# Altium integrated library Altium_WCAP-CSRF (rev20a).IntLib: 25 symbols
Pins are listed as number, name and electrical type; pins without a type are passive.

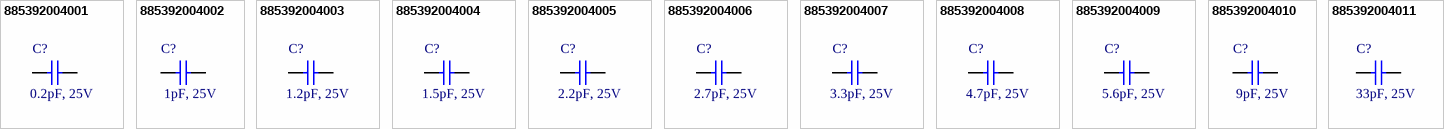
[diagram p0: symbols 885392004001 to 885392004011]

## 885392004001
designator C?, comment 0.2pF, 25V
WCAP-CSRF Multilayer Ceramic Chip High Frequency Capacitor, size 0201, NP0 Class I, 0.2pF, 25V; Manufacturer: Wurth Elektronik; Manufacturer Part Number: 885392004001; Q-Factor min.: 404; Rated Voltage: 25VDC; Insulation Resistance: 10GOhm; Capacitance Tolerance: +/-0.05pF; Technical Reference: NP00201R20A025DFCT1R000; ComponentLink1Description: Manufacturer; ComponentLink1URL: http://www.we-online.de; ComponentLink2Description: Datasheet; ComponentLink2URL: https://www.we-online.com/catalog/datasheet/885392004001.pdf; Mounting Technology: SMT; Operating Temperature: -55 to +125degC; Packaging: Tape and Reel; Published Date: May 2020; Ceramic Type: NP0 Class I; Height: 0.3mm; Capacitance: 0.2pF; Size: 0201
footprint WCAP-CSRF_0201
pins: 1, 2

## 885392004002
designator C?, comment 1pF, 25V
WCAP-CSRF Multilayer Ceramic Chip High Frequency Capacitor, size 0201, NP0 Class I, 1pF, 25V; Manufacturer: Wurth Elektronik; Manufacturer Part Number: 885392004002; Q-Factor min.: 420; Rated Voltage: 25VDC; Insulation Resistance: 10GOhm; Capacitance Tolerance: +/-0.1pF; Technical Reference: NP002011R0B025DFCT1R000; ComponentLink1Description: Manufacturer; ComponentLink1URL: http://www.we-online.de; ComponentLink2Description: Datasheet; ComponentLink2URL: https://www.we-online.com/catalog/datasheet/885392004002.pdf; Mounting Technology: SMT; Operating Temperature: -55 to +125degC; Packaging: Tape and Reel; Published Date: May 2020; Ceramic Type: NP0 Class I; Height: 0.3mm; Capacitance: 1pF; Size: 0201
footprint WCAP-CSRF_0201
pins: 1, 2

## 885392004003
designator C?, comment 1.2pF, 25V
WCAP-CSRF Multilayer Ceramic Chip High Frequency Capacitor, size 0201, NP0 Class I, 1.2pF, 25V; Manufacturer: Wurth Elektronik; Manufacturer Part Number: 885392004003; Q-Factor min.: 424; Rated Voltage: 25VDC; Insulation Resistance: 10GOhm; Capacitance Tolerance: +/-0.1pF; Technical Reference: NP002011R2B025DFCT1R000; ComponentLink1Description: Manufacturer; ComponentLink1URL: http://www.we-online.de; ComponentLink2Description: Datasheet; ComponentLink2URL: https://www.we-online.com/catalog/datasheet/885392004003.pdf; Mounting Technology: SMT; Operating Temperature: -55 to +125degC; Packaging: Tape and Reel; Published Date: May 2020; Ceramic Type: NP0 Class I; Height: 0.3mm; Capacitance: 1.2pF; Size: 0201
footprint WCAP-CSRF_0201
pins: 1, 2

## 885392004004
designator C?, comment 1.5pF, 25V
WCAP-CSRF Multilayer Ceramic Chip High Frequency Capacitor, size 0201, NP0 Class I, 1.5pF, 25V; Manufacturer: Wurth Elektronik; Manufacturer Part Number: 885392004004; Q-Factor min.: 430; Rated Voltage: 25VDC; Insulation Resistance: 10GOhm; Capacitance Tolerance: +/-0.1pF; Technical Reference: NP002011R5B025DFCT1R000; ComponentLink1Description: Manufacturer; ComponentLink1URL: http://www.we-online.de; ComponentLink2Description: Datasheet; ComponentLink2URL: https://www.we-online.com/catalog/datasheet/885392004004.pdf; Mounting Technology: SMT; Operating Temperature: -55 to +125degC; Packaging: Tape and Reel; Published Date: May 2020; Ceramic Type: NP0 Class I; Height: 0.3mm; Capacitance: 1.5pF; Size: 0201
footprint WCAP-CSRF_0201
pins: 1, 2

## 885392004005
designator C?, comment 2.2pF, 25V
WCAP-CSRF Multilayer Ceramic Chip High Frequency Capacitor, size 0201, NP0 Class I, 2.2pF, 25V; Manufacturer: Wurth Elektronik; Manufacturer Part Number: 885392004005; Q-Factor min.: 444; Rated Voltage: 25VDC; Insulation Resistance: 10GOhm; Capacitance Tolerance: +/-0.1pF; Technical Reference: NP002012R2B025DFCT1R000; ComponentLink1Description: Manufacturer; ComponentLink1URL: http://www.we-online.de; ComponentLink2Description: Datasheet; ComponentLink2URL: https://www.we-online.com/catalog/datasheet/885392004005.pdf; Mounting Technology: SMT; Operating Temperature: -55 to +125degC; Packaging: Tape and Reel; Published Date: May 2020; Ceramic Type: NP0 Class I; Height: 0.3mm; Capacitance: 2.2pF; Size: 0201
footprint WCAP-CSRF_0201
pins: 1, 2

## 885392004006
designator C?, comment 2.7pF, 25V
WCAP-CSRF Multilayer Ceramic Chip High Frequency Capacitor, size 0201, NP0 Class I, 2.7pF, 25V; Manufacturer: Wurth Elektronik; Manufacturer Part Number: 885392004006; Q-Factor min.: 454; Rated Voltage: 25VDC; Insulation Resistance: 10GOhm; Capacitance Tolerance: +/-0.1pF; Technical Reference: NP002012R7B025DFCT1R000; ComponentLink1Description: Manufacturer; ComponentLink1URL: http://www.we-online.de; ComponentLink2Description: Datasheet; ComponentLink2URL: https://www.we-online.com/catalog/datasheet/885392004006.pdf; Mounting Technology: SMT; Operating Temperature: -55 to +125degC; Packaging: Tape and Reel; Published Date: May 2020; Ceramic Type: NP0 Class I; Height: 0.3mm; Capacitance: 2.7pF; Size: 0201
footprint WCAP-CSRF_0201
pins: 1, 2

## 885392004007
designator C?, comment 3.3pF, 25V
WCAP-CSRF Multilayer Ceramic Chip High Frequency Capacitor, size 0201, NP0 Class I, 3.3pF, 25V; Manufacturer: Wurth Elektronik; Manufacturer Part Number: 885392004007; Q-Factor min.: 466; Rated Voltage: 25VDC; Insulation Resistance: 10GOhm; Capacitance Tolerance: +/-0.1pF; Technical Reference: NP002013R3B025DFCT1R000; ComponentLink1Description: Manufacturer; ComponentLink1URL: http://www.we-online.de; ComponentLink2Description: Datasheet; ComponentLink2URL: https://www.we-online.com/catalog/datasheet/885392004007.pdf; Mounting Technology: SMT; Operating Temperature: -55 to +125degC; Packaging: Tape and Reel; Published Date: May 2020; Ceramic Type: NP0 Class I; Height: 0.3mm; Capacitance: 3.3pF; Size: 0201
footprint WCAP-CSRF_0201
pins: 1, 2

## 885392004008
designator C?, comment 4.7pF, 25V
WCAP-CSRF Multilayer Ceramic Chip High Frequency Capacitor, size 0201, NP0 Class I, 4.7pF, 25V; Manufacturer: Wurth Elektronik; Manufacturer Part Number: 885392004008; Q-Factor min.: 494; Rated Voltage: 25VDC; Insulation Resistance: 10GOhm; Capacitance Tolerance: +/-0.25pF; Technical Reference: NP002014R7C025DFCT1R000; ComponentLink1Description: Manufacturer; ComponentLink1URL: http://www.we-online.de; ComponentLink2Description: Datasheet; ComponentLink2URL: https://www.we-online.com/catalog/datasheet/885392004008.pdf; Mounting Technology: SMT; Operating Temperature: -55 to +125degC; Packaging: Tape and Reel; Published Date: May 2020; Ceramic Type: NP0 Class I; Height: 0.3mm; Capacitance: 4.7pF; Size: 0201
footprint WCAP-CSRF_0201
pins: 1, 2

## 885392004009
designator C?, comment 5.6pF, 25V
WCAP-CSRF Multilayer Ceramic Chip High Frequency Capacitor, size 0201, NP0 Class I, 5.6pF, 25V; Manufacturer: Wurth Elektronik; Manufacturer Part Number: 885392004009; Q-Factor min.: 512; Rated Voltage: 25VDC; Insulation Resistance: 10GOhm; Capacitance Tolerance: +/-0.25pF; Technical Reference: NP002015R6C025DFCT1R000; ComponentLink1Description: Manufacturer; ComponentLink1URL: http://www.we-online.de; ComponentLink2Description: Datasheet; ComponentLink2URL: https://www.we-online.com/catalog/datasheet/885392004009.pdf; Mounting Technology: SMT; Operating Temperature: -55 to +125degC; Packaging: Tape and Reel; Published Date: May 2020; Ceramic Type: NP0 Class I; Height: 0.3mm; Capacitance: 5.6pF; Size: 0201
footprint WCAP-CSRF_0201
pins: 1, 2

## 885392004010
designator C?, comment 9pF, 25V
WCAP-CSRF Multilayer Ceramic Chip High Frequency Capacitor, size 0201, NP0 Class I, 9pF, 25V; Manufacturer: Wurth Elektronik; Manufacturer Part Number: 885392004010; Q-Factor min.: 580; Rated Voltage: 25VDC; Insulation Resistance: 10GOhm; Capacitance Tolerance: +/-0.5pF; Technical Reference: NP002019R0D025DFCT1R000; ComponentLink1Description: Manufacturer; ComponentLink1URL: http://www.we-online.de; ComponentLink2Description: Datasheet; ComponentLink2URL: https://www.we-online.com/catalog/datasheet/885392004010.pdf; Mounting Technology: SMT; Operating Temperature: -55 to +125degC; Packaging: Tape and Reel; Published Date: May 2020; Ceramic Type: NP0 Class I; Height: 0.3mm; Capacitance: 9pF; Size: 0201
footprint WCAP-CSRF_0201
pins: 1, 2

## 885392004011
designator C?, comment 33pF, 25V
WCAP-CSRF Multilayer Ceramic Chip High Frequency Capacitor, size 0201, NP0 Class I, 33pF, 25V; Manufacturer: Wurth Elektronik; Manufacturer Part Number: 885392004011; Q-Factor min.: 1000; Rated Voltage: 25VDC; Insulation Resistance: 10GOhm; Capacitance Tolerance: +/-5%; Technical Reference: NP00201330J025DFCT1R000; ComponentLink1Description: Manufacturer; ComponentLink1URL: http://www.we-online.de; ComponentLink2Description: Datasheet; ComponentLink2URL: https://www.we-online.com/catalog/datasheet/885392004011.pdf; Mounting Technology: SMT; Operating Temperature: -55 to +125degC; Packaging: Tape and Reel; Published Date: May 2020; Ceramic Type: NP0 Class I; Height: 0.3mm; Capacitance: 33pF; Size: 0201
footprint WCAP-CSRF_0201
pins: 1, 2


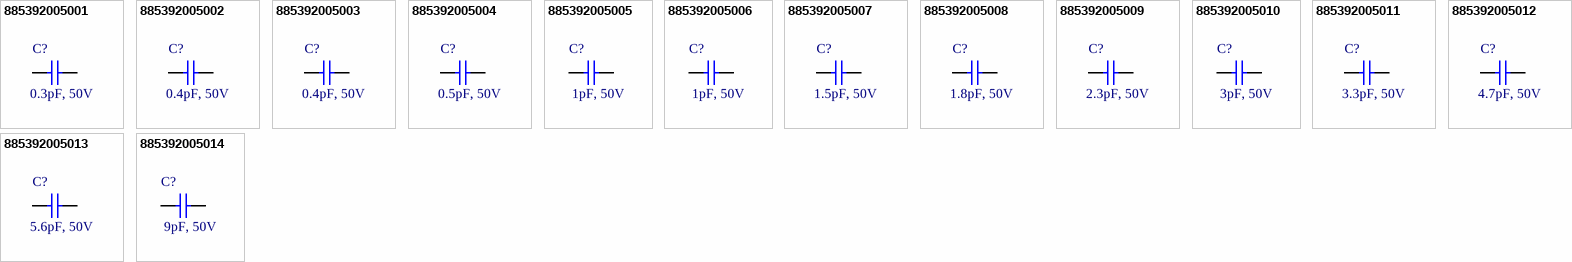
[diagram p1: symbols 885392005001 to 885392005014]

## 885392005001
designator C?, comment 0.3pF, 50V
WCAP-CSRF Multilayer Ceramic Chip High Frequency Capacitor, size 0402, NP0 Class I, 0.3pF, 50V; Manufacturer: Wurth Elektronik; Manufacturer Part Number: 885392005001; Q-Factor min.: 406; Rated Voltage: 50VDC; Insulation Resistance: 10GOhm; Capacitance Tolerance: +/-0.1pF; Technical Reference: NP00402R30B050DFCT1R000; ComponentLink1Description: Manufacturer; ComponentLink1URL: http://www.we-online.de; ComponentLink2Description: Datasheet; ComponentLink2URL: https://www.we-online.com/catalog/datasheet/885392005001.pdf; Mounting Technology: SMT; Operating Temperature: -55 to +125degC; Packaging: Tape and Reel; Published Date: May 2020; Ceramic Type: NP0 Class I; Height: 0.5mm; Capacitance: 0.3pF; Size: 0402
footprint WCAP-CSRF_0402
pins: 1, 2

## 885392005002
designator C?, comment 0.4pF, 50V
WCAP-CSRF Multilayer Ceramic Chip High Frequency Capacitor, size 0402, NP0 Class I, 0.4pF, 50V; Manufacturer: Wurth Elektronik; Manufacturer Part Number: 885392005002; Q-Factor min.: 408; Rated Voltage: 50VDC; Insulation Resistance: 10GOhm; Capacitance Tolerance: +/-0.05pF; Technical Reference: NP00402R40A050DFCT1R000; ComponentLink1Description: Manufacturer; ComponentLink1URL: http://www.we-online.de; ComponentLink2Description: Datasheet; ComponentLink2URL: https://www.we-online.com/catalog/datasheet/885392005002.pdf; Mounting Technology: SMT; Operating Temperature: -55 to +125degC; Packaging: Tape and Reel; Published Date: May 2020; Ceramic Type: NP0 Class I; Height: 0.5mm; Capacitance: 0.4pF; Size: 0402
footprint WCAP-CSRF_0402
pins: 1, 2

## 885392005003
designator C?, comment 0.4pF, 50V
WCAP-CSRF Multilayer Ceramic Chip High Frequency Capacitor, size 0402, NP0 Class I, 0.4pF, 50V; Manufacturer: Wurth Elektronik; Manufacturer Part Number: 885392005003; Q-Factor min.: 408; Rated Voltage: 50VDC; Insulation Resistance: 10GOhm; Capacitance Tolerance: +/-0.1pF; Technical Reference: NP00402R40B050DFCT1R000; ComponentLink1Description: Manufacturer; ComponentLink1URL: http://www.we-online.de; ComponentLink2Description: Datasheet; ComponentLink2URL: https://www.we-online.com/catalog/datasheet/885392005003.pdf; Mounting Technology: SMT; Operating Temperature: -55 to +125degC; Packaging: Tape and Reel; Published Date: May 2020; Ceramic Type: NP0 Class I; Height: 0.5mm; Capacitance: 0.4pF; Size: 0402
footprint WCAP-CSRF_0402
pins: 1, 2

## 885392005004
designator C?, comment 0.5pF, 50V
WCAP-CSRF Multilayer Ceramic Chip High Frequency Capacitor, size 0402, NP0 Class I, 0.5pF, 50V; Manufacturer: Wurth Elektronik; Manufacturer Part Number: 885392005004; Q-Factor min.: 410; Rated Voltage: 50VDC; Insulation Resistance: 10GOhm; Capacitance Tolerance: +/-0.05pF; Technical Reference: NP00402R50A050DFCT1R000; ComponentLink1Description: Manufacturer; ComponentLink1URL: http://www.we-online.de; ComponentLink2Description: Datasheet; ComponentLink2URL: https://www.we-online.com/catalog/datasheet/885392005004.pdf; Mounting Technology: SMT; Operating Temperature: -55 to +125degC; Packaging: Tape and Reel; Published Date: May 2020; Ceramic Type: NP0 Class I; Height: 0.5mm; Capacitance: 0.5pF; Size: 0402
footprint WCAP-CSRF_0402
pins: 1, 2

## 885392005005
designator C?, comment 1pF, 50V
WCAP-CSRF Multilayer Ceramic Chip High Frequency Capacitor, size 0402, NP0 Class I, 1pF, 50V; Manufacturer: Wurth Elektronik; Manufacturer Part Number: 885392005005; Q-Factor min.: 420; Rated Voltage: 50VDC; Insulation Resistance: 10GOhm; Capacitance Tolerance: +/-0.05pF; Technical Reference: NP004021R0A050DFCT1R000; ComponentLink1Description: Manufacturer; ComponentLink1URL: http://www.we-online.de; ComponentLink2Description: Datasheet; ComponentLink2URL: https://www.we-online.com/catalog/datasheet/885392005005.pdf; Mounting Technology: SMT; Operating Temperature: -55 to +125degC; Packaging: Tape and Reel; Published Date: May 2020; Ceramic Type: NP0 Class I; Height: 0.5mm; Capacitance: 1pF; Size: 0402
footprint WCAP-CSRF_0402
pins: 1, 2

## 885392005006
designator C?, comment 1pF, 50V
WCAP-CSRF Multilayer Ceramic Chip High Frequency Capacitor, size 0402, NP0 Class I, 1pF, 50V; Manufacturer: Wurth Elektronik; Manufacturer Part Number: 885392005006; Q-Factor min.: 420; Rated Voltage: 50VDC; Insulation Resistance: 10GOhm; Capacitance Tolerance: +/-0.1pF; Technical Reference: NP004021R0B050DFCT1R000; ComponentLink1Description: Manufacturer; ComponentLink1URL: http://www.we-online.de; ComponentLink2Description: Datasheet; ComponentLink2URL: https://www.we-online.com/catalog/datasheet/885392005006.pdf; Mounting Technology: SMT; Operating Temperature: -55 to +125degC; Packaging: Tape and Reel; Published Date: May 2020; Ceramic Type: NP0 Class I; Height: 0.5mm; Capacitance: 1pF; Size: 0402
footprint WCAP-CSRF_0402
pins: 1, 2

## 885392005007
designator C?, comment 1.5pF, 50V
WCAP-CSRF Multilayer Ceramic Chip High Frequency Capacitor, size 0402, NP0 Class I, 1.5pF, 50V; Manufacturer: Wurth Elektronik; Manufacturer Part Number: 885392005007; Q-Factor min.: 430; Rated Voltage: 50VDC; Insulation Resistance: 10GOhm; Capacitance Tolerance: +/-0.1pF; Technical Reference: NP004021R5B050DFCT1R000; ComponentLink1Description: Manufacturer; ComponentLink1URL: http://www.we-online.de; ComponentLink2Description: Datasheet; ComponentLink2URL: https://www.we-online.com/catalog/datasheet/885392005007.pdf; Mounting Technology: SMT; Operating Temperature: -55 to +125degC; Packaging: Tape and Reel; Published Date: May 2020; Ceramic Type: NP0 Class I; Height: 0.5mm; Capacitance: 1.5pF; Size: 0402
footprint WCAP-CSRF_0402
pins: 1, 2

## 885392005008
designator C?, comment 1.8pF, 50V
WCAP-CSRF Multilayer Ceramic Chip High Frequency Capacitor, size 0402, NP0 Class I, 1.8pF, 50V; Manufacturer: Wurth Elektronik; Manufacturer Part Number: 885392005008; Q-Factor min.: 436; Rated Voltage: 50VDC; Insulation Resistance: 10GOhm; Capacitance Tolerance: +/-0.1pF; Technical Reference: NP004021R8B050DFCT1R000; ComponentLink1Description: Manufacturer; ComponentLink1URL: http://www.we-online.de; ComponentLink2Description: Datasheet; ComponentLink2URL: https://www.we-online.com/catalog/datasheet/885392005008.pdf; Mounting Technology: SMT; Operating Temperature: -55 to +125degC; Packaging: Tape and Reel; Published Date: May 2020; Ceramic Type: NP0 Class I; Height: 0.5mm; Capacitance: 1.8pF; Size: 0402
footprint WCAP-CSRF_0402
pins: 1, 2

## 885392005009
designator C?, comment 2.3pF, 50V
WCAP-CSRF Multilayer Ceramic Chip High Frequency Capacitor, size 0402, NP0 Class I, 2.3pF, 50V; Manufacturer: Wurth Elektronik; Manufacturer Part Number: 885392005009; Q-Factor min.: 446; Rated Voltage: 50VDC; Insulation Resistance: 10GOhm; Capacitance Tolerance: +/-0.05pF; Technical Reference: NP004022R3A050DFCT1R000; ComponentLink1Description: Manufacturer; ComponentLink1URL: http://www.we-online.de; ComponentLink2Description: Datasheet; ComponentLink2URL: https://www.we-online.com/catalog/datasheet/885392005009.pdf; Mounting Technology: SMT; Operating Temperature: -55 to +125degC; Packaging: Tape and Reel; Published Date: May 2020; Ceramic Type: NP0 Class I; Height: 0.5mm; Capacitance: 2.3pF; Size: 0402
footprint WCAP-CSRF_0402
pins: 1, 2

## 885392005010
designator C?, comment 3pF, 50V
WCAP-CSRF Multilayer Ceramic Chip High Frequency Capacitor, size 0402, NP0 Class I, 3pF, 50V; Manufacturer: Wurth Elektronik; Manufacturer Part Number: 885392005010; Q-Factor min.: 460; Rated Voltage: 50VDC; Insulation Resistance: 10GOhm; Capacitance Tolerance: +/-0.1pF; Technical Reference: NP004023R0B050DFCT1R000; ComponentLink1Description: Manufacturer; ComponentLink1URL: http://www.we-online.de; ComponentLink2Description: Datasheet; ComponentLink2URL: https://www.we-online.com/catalog/datasheet/885392005010.pdf; Mounting Technology: SMT; Operating Temperature: -55 to +125degC; Packaging: Tape and Reel; Published Date: May 2020; Ceramic Type: NP0 Class I; Height: 0.5mm; Capacitance: 3pF; Size: 0402
footprint WCAP-CSRF_0402
pins: 1, 2

## 885392005011
designator C?, comment 3.3pF, 50V
WCAP-CSRF Multilayer Ceramic Chip High Frequency Capacitor, size 0402, NP0 Class I, 3.3pF, 50V; Manufacturer: Wurth Elektronik; Manufacturer Part Number: 885392005011; Q-Factor min.: 466; Rated Voltage: 50VDC; Insulation Resistance: 10GOhm; Capacitance Tolerance: +/-0.1pF; Technical Reference: NP004023R3B050DFCT1R000; ComponentLink1Description: Manufacturer; ComponentLink1URL: http://www.we-online.de; ComponentLink2Description: Datasheet; ComponentLink2URL: https://www.we-online.com/catalog/datasheet/885392005011.pdf; Mounting Technology: SMT; Operating Temperature: -55 to +125degC; Packaging: Tape and Reel; Published Date: May 2020; Ceramic Type: NP0 Class I; Height: 0.5mm; Capacitance: 3.3pF; Size: 0402
footprint WCAP-CSRF_0402
pins: 1, 2

## 885392005012
designator C?, comment 4.7pF, 50V
WCAP-CSRF Multilayer Ceramic Chip High Frequency Capacitor, size 0402, NP0 Class I, 4.7pF, 50V; Manufacturer: Wurth Elektronik; Manufacturer Part Number: 885392005012; Q-Factor min.: 494; Rated Voltage: 50VDC; Insulation Resistance: 10GOhm; Capacitance Tolerance: +/-0.1pF; Technical Reference: NP004024R7B050DFCT1R000; ComponentLink1Description: Manufacturer; ComponentLink1URL: http://www.we-online.de; ComponentLink2Description: Datasheet; ComponentLink2URL: https://www.we-online.com/catalog/datasheet/885392005012.pdf; Mounting Technology: SMT; Operating Temperature: -55 to +125degC; Packaging: Tape and Reel; Published Date: May 2020; Ceramic Type: NP0 Class I; Height: 0.5mm; Capacitance: 4.7pF; Size: 0402
footprint WCAP-CSRF_0402
pins: 1, 2

## 885392005013
designator C?, comment 5.6pF, 50V
WCAP-CSRF Multilayer Ceramic Chip High Frequency Capacitor, size 0402, NP0 Class I, 5.6pF, 50V; Manufacturer: Wurth Elektronik; Manufacturer Part Number: 885392005013; Q-Factor min.: 512; Rated Voltage: 50VDC; Insulation Resistance: 10GOhm; Capacitance Tolerance: +/-0.1pF; Technical Reference: NP004025R6B050DFCT1R000; ComponentLink1Description: Manufacturer; ComponentLink1URL: http://www.we-online.de; ComponentLink2Description: Datasheet; ComponentLink2URL: https://www.we-online.com/catalog/datasheet/885392005013.pdf; Mounting Technology: SMT; Operating Temperature: -55 to +125degC; Packaging: Tape and Reel; Published Date: May 2020; Ceramic Type: NP0 Class I; Height: 0.5mm; Capacitance: 5.6pF; Size: 0402
footprint WCAP-CSRF_0402
pins: 1, 2

## 885392005014
designator C?, comment 9pF, 50V
WCAP-CSRF Multilayer Ceramic Chip High Frequency Capacitor, size 0402, NP0 Class I, 9pF, 50V; Manufacturer: Wurth Elektronik; Manufacturer Part Number: 885392005014; Q-Factor min.: 580; Rated Voltage: 50VDC; Insulation Resistance: 10GOhm; Capacitance Tolerance: +/-0.25pF; Technical Reference: NP004029R0C050DFCT1R000; ComponentLink1Description: Manufacturer; ComponentLink1URL: http://www.we-online.de; ComponentLink2Description: Datasheet; ComponentLink2URL: https://www.we-online.com/catalog/datasheet/885392005014.pdf; Mounting Technology: SMT; Operating Temperature: -55 to +125degC; Packaging: Tape and Reel; Published Date: May 2020; Ceramic Type: NP0 Class I; Height: 0.5mm; Capacitance: 9pF; Size: 0402
footprint WCAP-CSRF_0402
pins: 1, 2